# Altium footprint library General_Devices.PcbLib: 25 footprints (part 1 of 2)
Each footprint in its own frame and in the unit in brackets; x right, y up, seen from the top. Pads: shape width x height; smd on the part's side, far side on the other; paste and mask are expansions set on the pad; w line width, h text height; cw(c..) or ccw(c..) is an arc to the next point about the centre after c.
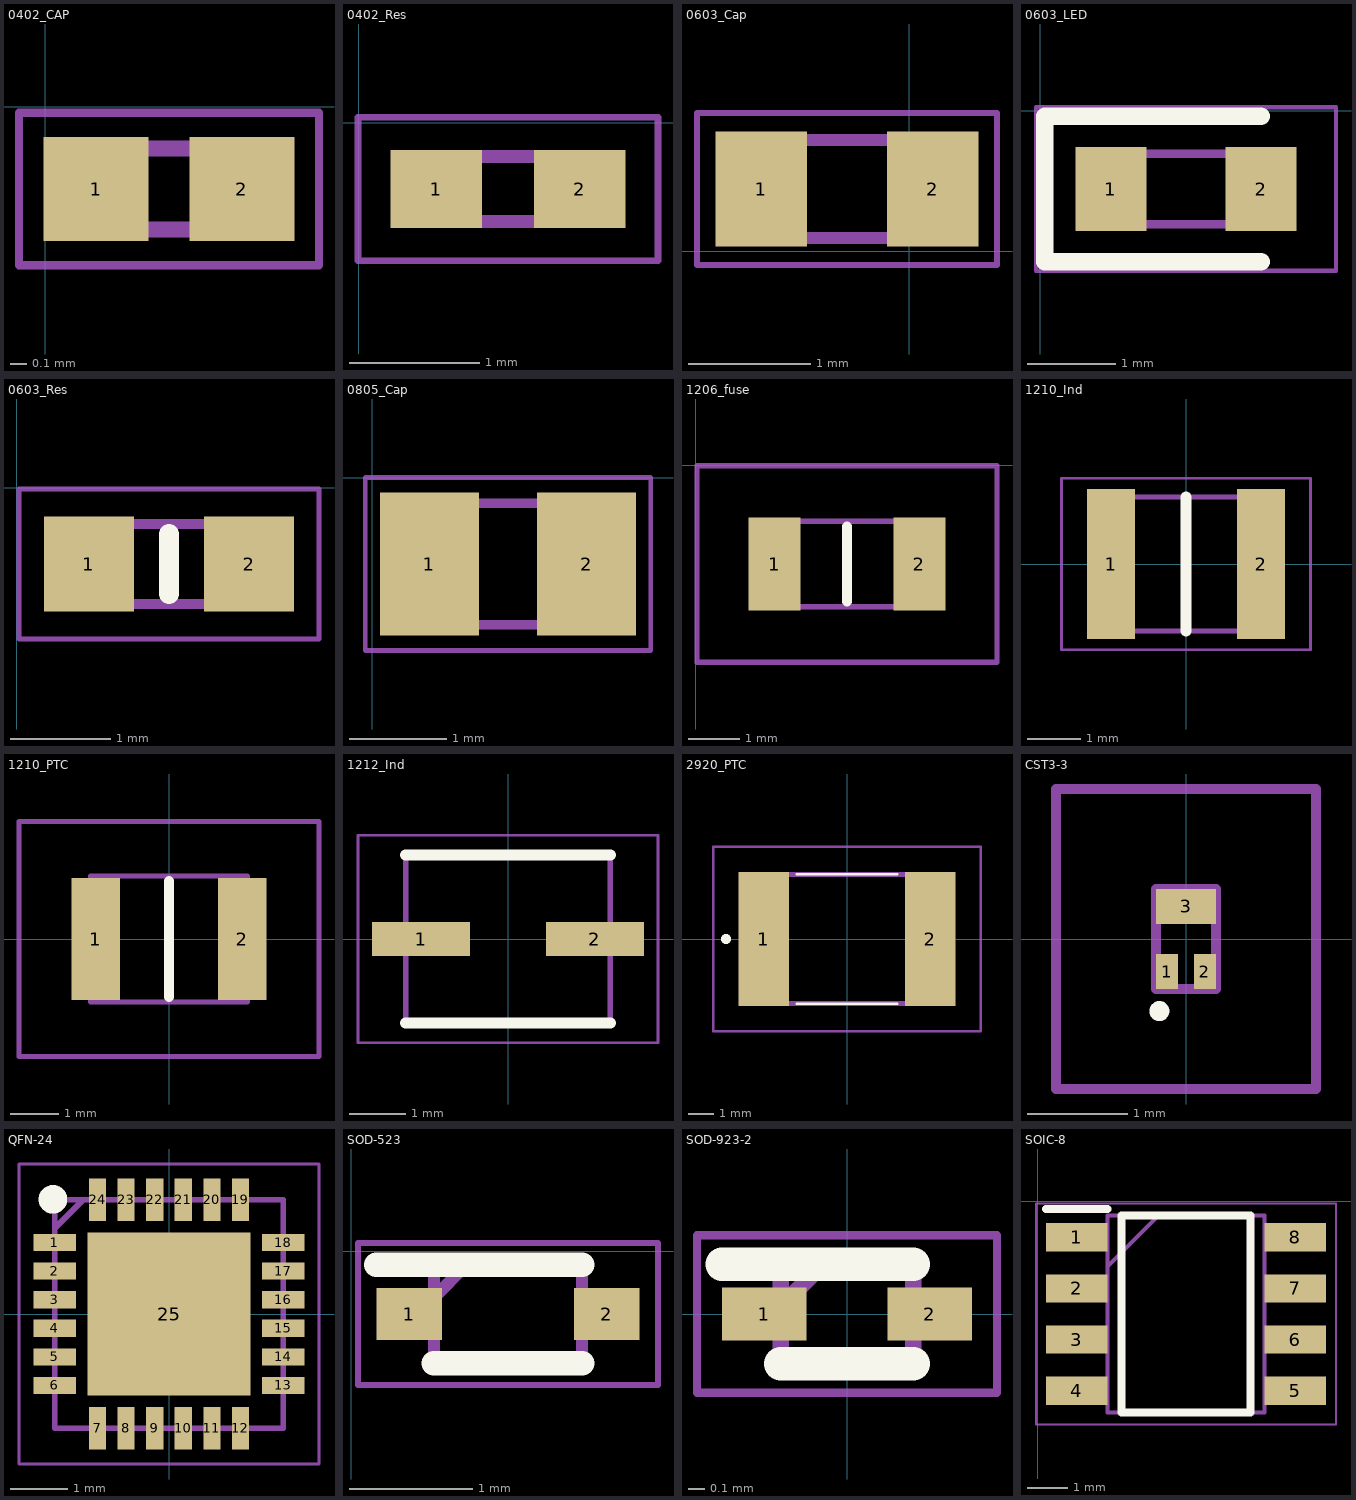
[diagram p0: the footprints below, top view; thin cyan lines are the x and y axes]

## 0402_CAP [mm]
pads (2):
  rect 0.65x0.64 smd: 1(0.312,-0.508) 2(1.212,-0.508)
Top 3D Body:
  lines w0.1: 0.262,-0.758 1.262,-0.758 1.262,-0.258 0.262,-0.258 0.262,-0.758
Bottom 3D Body:
  lines w0.05: -0.163,-0.978 1.687,-0.978 1.687,-0.038 -0.163,-0.038 -0.163,-0.978
3D body "0402YC104MAT2A.stp": height 0.56, standoff 0, extent 0.262,-0.758 1.262,-0.258

## 0402_Res [mm]
pads (2):
  rect 0.7x0.6 smd: 1(0.593,-0.508) 2(1.693,-0.508)
Top 3D Body:
  lines w0.1: 0.643,-0.758 0.643,-0.258 1.643,-0.258 1.643,-0.758 0.643,-0.758
Bottom 3D Body:
  lines w0.05: -0.007,-1.058 -0.007,0.042 2.293,0.042 2.293,-1.058 -0.007,-1.058
3D body "RP0402BRD073K3L.stp": height 0.35, standoff 0, extent 0.643,-0.758 1.643,-0.258

## 0603_Cap [mm]
pads (2):
  rect 0.75x0.94 smd: 1(-1.208,0.508) 2(0.192,0.508)
Top 3D Body:
  lines w0.1: -1.308,0.108 0.292,0.108 0.292,0.908 -1.308,0.908 -1.308,0.108
Bottom 3D Body:
  lines w0.05: -1.733,-0.112 0.717,-0.112 0.717,1.128 -1.733,1.128 -1.733,-0.112
3D body "GRM188R61C475KE11D.stp": height 0.8, standoff 0, extent -1.308,0.058 0.292,0.958

## 0603_LED [mm]
pads (2):
  rect 0.8x0.95 smd: 1(0.801,-0.889) 2(2.501,-0.889)
Top Overlay:
  lines w0.2: 2.501,-1.714 0.051,-1.714 0.051,-0.064 2.501,-0.064
Top 3D Body:
  lines w0.1: 0.851,-0.756 1.118,-0.489 ; 0.851,-1.289 0.851,-0.489 2.451,-0.489 2.451,-1.289 0.851,-1.289
Bottom 3D Body:
  lines w0.05: -0.049,-1.814 -0.049,0.036 3.351,0.036 3.351,-1.814 -0.049,-1.814
3D body "LSM0603453V.stp": height 0.58, standoff 0, extent 0.831,-1.289 2.431,-0.489

## 0603_Res [mm]
pads (2):
  rect 0.9x0.95 smd: 1(0.724,-0.762) 2(2.324,-0.762)
Top Overlay:
  lines w0.2: 1.524,-1.062 1.524,-0.462
Top 3D Body:
  lines w0.1: 0.724,-1.162 0.724,-0.362 2.324,-0.362 2.324,-1.162 0.724,-1.162
Bottom 3D Body:
  lines w0.05: 0.024,-1.512 0.024,-0.012 3.024,-0.012 3.024,-1.512 0.024,-1.512
3D body "CHV0603-FX-1004EST.stp": height 0.55, standoff 0, extent 0.724,-1.162 2.324,-0.362

## 0805_Cap [mm]
pads (2):
  rect 1.02x1.47 smd: 1(0.587,-0.889) 2(2.207,-0.889)
Top 3D Body:
  lines w0.1: 0.392,-1.514 0.392,-0.264 2.402,-0.264 2.402,-1.514 0.392,-1.514
Bottom 3D Body:
  lines w0.05: -0.073,-1.779 -0.073,0.001 2.867,0.001 2.867,-1.779 -0.073,-1.779
3D body "0805YD226MAT2A.stp": height 1.52, standoff 0, extent 0.392,-1.514 2.402,-0.264

## 1206_fuse [mm]
pads (2):
  rect 1x1.8 smd: 1(1.521,-1.905) 2(4.321,-1.905)
Top Overlay:
  lines w0.2: 2.921,-2.63 2.921,-1.18
Top 3D Body:
  lines w0.1: 1.321,-2.73 1.321,-1.08 4.521,-1.08 4.521,-2.73 1.321,-2.73
Bottom 3D Body:
  lines w0.1: 0.021,-3.805 0.021,-0.005 5.821,-0.005 5.821,-3.805 0.021,-3.805
3D body "1206L400_12SLWR.stp": height 1, standoff 0, extent 1.321,-2.732 4.521,-1.078

## 1210_Ind [mm]
pads (2):
  rect 0.9x2.8 smd: 1(-1.4,0) 2(1.4,0)
Top Overlay:
  lines w0.2: 0,-1.25 0,1.25
Top 3D Body:
  lines w0.1: -1.6,-1.25 1.6,-1.25 1.6,1.25 -1.6,1.25 -1.6,-1.25
Bottom 3D Body:
  lines w0.05: -2.325,-1.6 2.325,-1.6 2.325,1.6 -2.325,1.6 -2.325,-1.6
3D body "DFE322512F-1R0M=P2.stp": height 1.2, standoff 0, extent -1.6,-1.25 1.6,1.25

## 1210_PTC [mm]
pads (2):
  rect 1x2.5 smd: 1(-1.5,0) 2(1.5,0)
Top Overlay:
  lines w0.2: 0,-1.188 0,1.188
Top 3D Body:
  lines w0.1: -1.608,-1.288 -1.608,1.288 1.608,1.288 1.608,-1.288 -1.608,-1.288
Bottom 3D Body:
  lines w0.1: -3.075,-2.405 -3.075,2.405 3.075,2.405 3.075,-2.405 -3.075,-2.405
3D body "1210L500_12SLWR.stp": height 0.7, standoff 0, extent -1.607,-1.298 1.607,1.298

## 1212_Ind [mm]
pads (2):
  rect 1.75x0.6 smd: 1(-1.55,0) 2(1.55,0)
Top Overlay:
  lines w0.2: -1.825,-1.5 1.825,-1.5 ; -1.825,1.5 1.825,1.5
Top 3D Body:
  lines w0.1: -1.825,-1.5 -1.825,1.5 1.825,1.5 1.825,-1.5 -1.825,-1.5
Bottom 3D Body:
  lines w0.05: -2.675,-1.85 -2.675,1.85 2.675,1.85 2.675,-1.85 -2.675,-1.85
3D body "IHLP1212ABER1R0M11.stp": height 2, standoff 0, extent -1.825,-1.5 1.825,1.5

## 2920_PTC [mm]
pads (2):
  rect 2x5.3 smd: 1(-3.3,0) 2(3.3,0)
Top Overlay:
  lines w0.1: -2,-2.56 2,-2.56 ; -2,2.56 2,2.56
  lines w0.2: -4.8,-0.1 cw(c-4.8,0) -4.8,0.1 cw(c-4.8,0) -4.8,-0.1
Top 3D Body:
  lines w0.2: -3.678,-2.56 3.678,-2.56 3.678,2.56 -3.678,2.56 -3.678,-2.56
Bottom 3D Body:
  lines w0.1: -5.3,-3.65 5.3,-3.65 5.3,3.65 -5.3,3.65 -5.3,-3.65
3D body "2920L700_24SLER.stp": height 2.5, standoff 0, extent -3.675,-2.571 3.675,2.571

## CST3-3 [mm]
pads (3):
  rect 0.22x0.35 smd: 1(-0.19,-0.325) 2(0.19,-0.325)
  rect 0.6x0.35 smd: 3(0,0.325)
Top Overlay:
  lines w0.1: -0.266,-0.771 cw(c-0.266,-0.721) -0.266,-0.671 cw(c-0.266,-0.721) -0.266,-0.771
Top 3D Body:
  lines w0.1: -0.3,-0.5 -0.3,0.5 0.3,0.5 0.3,-0.5 -0.3,-0.5
Bottom 3D Body:
  lines w0.1: -1.3,-1.5 -1.3,1.5 1.3,1.5 1.3,-1.5 -1.3,-1.5
3D body "SSM3K72KCT,L3F.stp": height 0.5, standoff 0, extent -0.3,-0.5 0.3,0.5

## QFN-24 [mm]
pads (25):
  rect 0.75x0.3 smd: 1(-2,1.25) 2(-2,0.75) 3(-2,0.25) 4(-2,-0.25) 5(-2,-0.75) 6(-2,-1.25) 13(2,-1.25) 14(2,-0.75) 15(2,-0.25) 16(2,0.25) 17(2,0.75) 18(2,1.25)
  rect 0.3x0.75 smd: 7(-1.25,-2) 8(-0.75,-2) 9(-0.25,-2) 10(0.25,-2) 11(0.75,-2) 12(1.25,-2) 19(1.25,2) 20(0.75,2) 21(0.25,2) 22(-0.25,2) 23(-0.75,2) 24(-1.25,2)
  rect 2.85x2.85 smd: 25(0,0)
Top Overlay:
  circle w0.25: c-2.032,2.007 r0.125
Top 3D Body:
  lines w0.1: -2,1.5 -1.5,2 ; -2,-2 -2,2 2,2 2,-2 -2,-2
Bottom 3D Body:
  lines w0.05: -2.625,-2.625 -2.625,2.625 2.625,2.625 2.625,-2.625 -2.625,-2.625
3D body "CYPD3177-24LQXQT.stp": height 0.6, standoff 0, extent -2.05,-2.05 2.05,2.05

## SOD-523 [mm]
pads (2):
  rect 0.53x0.42 smd: 1(0.47,-0.508) 2(2.07,-0.508)
Top Overlay:
  lines w0.2: 0.205,-0.108 1.87,-0.108 ; 0.67,-0.908 1.87,-0.908
Top 3D Body:
  lines w0.1: 0.67,-0.373 0.935,-0.108 ; 0.67,-0.908 1.87,-0.908 1.87,-0.108 0.67,-0.108 0.67,-0.908
Bottom 3D Body:
  lines w0.05: 0.055,-1.083 2.485,-1.083 2.485,0.067 0.055,0.067 0.055,-1.083
3D body "PESD5Z5.0F.stp": height 0.61, standoff 0, extent 0.469,-0.923 2.069,-0.093

## SOD-923-2 [mm]
pads (2):
  rect 0.51x0.32 smd: 1(-0.5,0) 2(0.5,0)
Top Overlay:
  lines w0.2: -0.755,0.3 0.4,0.3 ; -0.4,-0.3 0.4,-0.3
Top 3D Body:
  lines w0.1: -0.4,0.045 -0.145,0.3 ; -0.4,-0.3 0.4,-0.3 0.4,0.3 -0.4,0.3 -0.4,-0.3
Bottom 3D Body:
  lines w0.05: -0.905,-0.475 0.905,-0.475 0.905,0.475 -0.905,0.475 -0.905,-0.475
3D body "NZ9F22VT5G.stp": height 0.4, standoff 0, extent -0.5,-0.3 0.5,0.3

## SOIC-8 [mm]
pads (8):
  rect 1.525x0.7 smd: 1(0.971,-0.889) 2(0.971,-2.159) 3(0.971,-3.429) 4(0.971,-4.699) 5(6.395,-4.699) 6(6.395,-3.429) 7(6.395,-2.159) 8(6.395,-0.889)
Top Overlay:
  lines w0.2: 0.208,-0.189 1.733,-0.189 ; 2.083,-5.244 5.283,-5.244 5.283,-0.344 2.083,-0.344 2.083,-5.244
Top 3D Body:
  lines w0.1: 1.733,-1.614 3.003,-0.344 ; 1.733,-5.244 5.633,-5.244 5.633,-0.344 1.733,-0.344 1.733,-5.244
Bottom 3D Body:
  lines w0.05: -0.042,-5.544 7.408,-5.544 7.408,-0.044 -0.042,-0.044 -0.042,-5.544
3D body "IRF7342TRPBF.stp": height 1.75, standoff 0, extent 0.683,-5.244 6.683,-0.344